# EAGLE library part XR3174EID-F (library Exar_By_element14_Batch_1)
TRANSCEIVERS
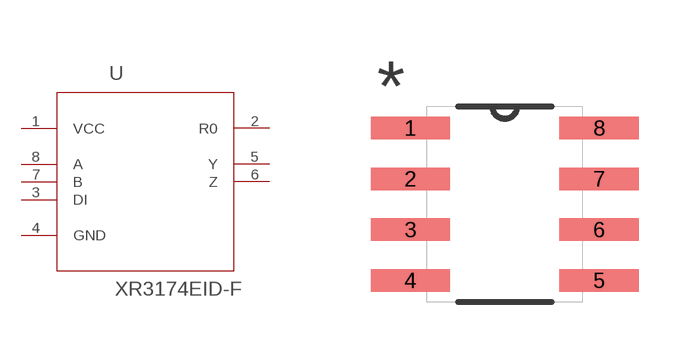
[diagram p86: symbol with the pads of SOIC127P600X175-8N; footprint SOIC127P600X175-8N]

Designator prefix U

## XR3174EID-F (MPN: XR3174EID-F; OC_FARNELL: 1821927; OC_NEWARK: 60R6699; PACKAGE: SOIC-8; SUPPLIER: Exar)  [SOIC127P600X175-8N]
1  VCC  pwr
2  R0  out
3  DI  in
4  GND  pas
5  Y  out
6  Z  out
7  B
8  A

## Footprint SOIC127P600X175-8N (pad centres in mm)
smd 1.981 x 0.559: 1 -2.362,1.905; 2 -2.362,0.635; 3 -2.362,-0.635; 4 -2.362,-1.905; 5 2.362,-1.905; 6 2.362,-0.635; 7 2.362,0.635; 8 2.362,1.905